# EAGLE library part CP2114_G01_GM (library Silicon Labs)
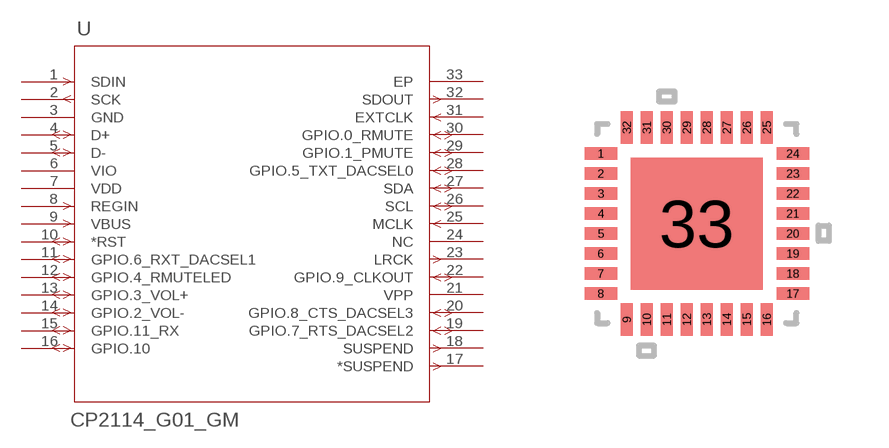
[diagram p2: symbol with the pads of QFN32_5X5; footprint QFN32_5X5]

Designator prefix U

## CP2114_G01_GM (MANUFACTURER_PART_NUMBER: cp2114_g01_gm; VENDOR: SILICON LABS)  [QFN32_5X5]
1  SDIN  in
2  SCK  out
3  GND  pwr
4  D+
5  D-
6  VIO  pwr
7  VDD  pwr
8  REGIN  in
9  VBUS  in
10  *RST
11  GPIO.6_RXT_DACSEL1
12  GPIO.4_RMUTELED
13  GPIO.3_VOL+
14  GPIO.2_VOL-
15  GPIO.11_RX
16  GPIO.10
17  *SUSPEND  out
18  SUSPEND  out
19  GPIO.7_RTS_DACSEL2
20  GPIO.8_CTS_DACSEL3
21  VPP  pas
22  GPIO.9_CLKOUT
23  LRCK  out
24  NC  nc
25  MCLK  in
26  SCL
27  SDA
28  GPIO.5_TXT_DACSEL0
29  GPIO.1_PMUTE
30  GPIO.0_RMUTE
31  EXTCLK  in
32  SDOUT  out
33  EP  pas

## Footprint QFN32_5X5 (pad centres in mm)
smd 0.813 x 0.305: 1 -2.4,1.75; 2 -2.4,1.25; 3 -2.4,0.75; 4 -2.4,0.25; 5 -2.4,-0.25; 6 -2.4,-0.75; 7 -2.4,-1.25; 8 -2.4,-1.75; 17 2.4,-1.75; 18 2.4,-1.25; 19 2.4,-0.75; 20 2.4,-0.25; 21 2.4,0.25; 22 2.4,0.75; 23 2.4,1.25; 24 2.4,1.75
smd 0.305 x 0.813: 9 -1.75,-2.4; 10 -1.25,-2.4; 11 -0.75,-2.4; 12 -0.25,-2.4; 13 0.25,-2.4; 14 0.75,-2.4; 15 1.25,-2.4; 16 1.75,-2.4; 25 1.75,2.4; 26 1.25,2.4; 27 0.75,2.4; 28 0.25,2.4; 29 -0.25,2.4; 30 -0.75,2.4; 31 -1.25,2.4; 32 -1.75,2.4
smd 3.302 x 3.302: 33 0,0